# EAGLE library part REZZONICS_87409-110LF (library DMFX-1_v1.0)
87409-110LF <http://www.digikey.com/product-detail/en/87409-110LF/609-1553-ND/1001867> CONN HEADER 20POS .050 VERT SMD
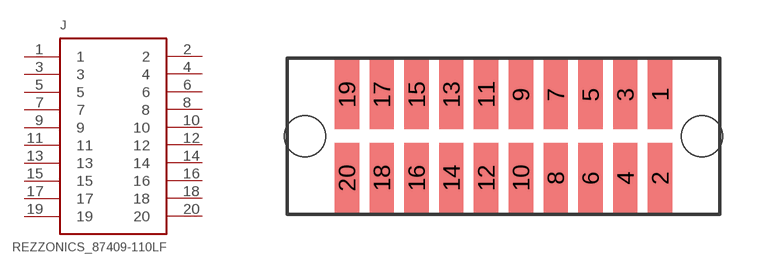
[diagram p10: symbol with the pads of REZZONICS_87409-110LF; footprint REZZONICS_87409-110LF]

Designator prefix J

## REZZONICS_87409-110LF  [REZZONICS_87409-110LF]
1  1  pas
2  2  pas
3  3  pas
4  4  pas
5  5  pas
6  6  pas
7  7  pas
8  8  pas
9  9  pas
10  10  pas
11  11  pas
12  12  pas
13  13  pas
14  14  pas
15  15  pas
16  16  pas
17  17  pas
18  18  pas
19  19  pas
20  20  pas

## Footprint REZZONICS_87409-110LF (pad centres in mm)
smd 0.889 x 2.54: 1 5.715,1.524; 2 5.715,-1.524; 3 4.445,1.524; 4 4.445,-1.524; 5 3.175,1.524; 6 3.175,-1.524; 7 1.905,1.524; 8 1.905,-1.524; 9 0.635,1.524; 10 0.635,-1.524; 11 -0.635,1.524; 12 -0.635,-1.524; 13 -1.905,1.524; 14 -1.905,-1.524; 15 -3.175,1.524; 16 -3.175,-1.524; 17 -4.445,1.524; 18 -4.445,-1.524; 19 -5.715,1.524; 20 -5.715,-1.524
hole 1.5 at 7.239,0
hole 1.5 at -7.239,0